# Altium schematic symbol library CRCW04022K20DHEDP.SchLib: 1 symbol
Pins are listed as number, name and electrical type; pins without a type are passive.

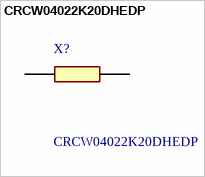
[diagram p0: symbol CRCW04022K20DHEDP]

## CRCW04022K20DHEDP
designator X?
Thick Film Resistors - SMD D10/CRCW0402-P 50 2K2 0.5% ET7 e3; Manufacturer_Name: Vishay; Geometry.Height: 0.4mm; Mouser Part Number: 71-CRCW04022K20DHEDP; Mouser Price/Stock: https://www.mouser.co.uk/ProductDetail/Vishay-Dale/CRCW04022K20DHEDP?qs=hWgE7mdIu5TsBnZbG%252BKJdA%3D%3D; Manufacturer_Part_Number: CRCW04022K20DHEDP; Datasheet Link: https://www.vishay.com/doc?20036
footprint RESC1005X40N
pins: 1, 2